# Altium schematic symbol library Resistors.SchLib: 2 symbols
Pins are listed as number, name and electrical type; pins without a type are passive.

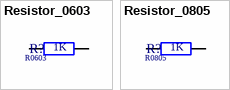
[diagram p0: symbols Resistor_0603 to Resistor_0805]

## Resistor_0603
designator R?  value 1K
Res 0605 SMD; Published: 2018-06-25; LatestRevisionDate: 2018-06-25; LatestRevisionNote: Creation; PackageReference: 0603; Publisher: JEFO; PackageDescription: 0603 SMD; Voltage Rating: *; Power Rating: *; Material: *; Tolerance: *
footprint R0603 (IPC-standard)
pins: 1, 2

## Resistor_0805
designator R?  value 1K
Res 0805 SMD; Published: 2018-03-2; LatestRevisionDate: 2018-06-25; LatestRevisionNote: Creation; PackageReference: 0805; Publisher: JEFO; PackageDescription: 0805 SMD; Voltage Rating: *; Power Rating: *; Material: *; Tolerance: *
footprint R0805 (IPC-Standard)
pins: 1, 2